# Altium footprint library IFBpcblib_offline.PcbLib: 137 footprints (part 7 of 9)
Each footprint in its own frame and in the unit in brackets; x right, y up, seen from the top. Pads: shape width x height; smd on the part's side, far side on the other; paste and mask are expansions set on the pad; w line width, h text height; cw(c..) or ccw(c..) is an arc to the next point about the centre after c.
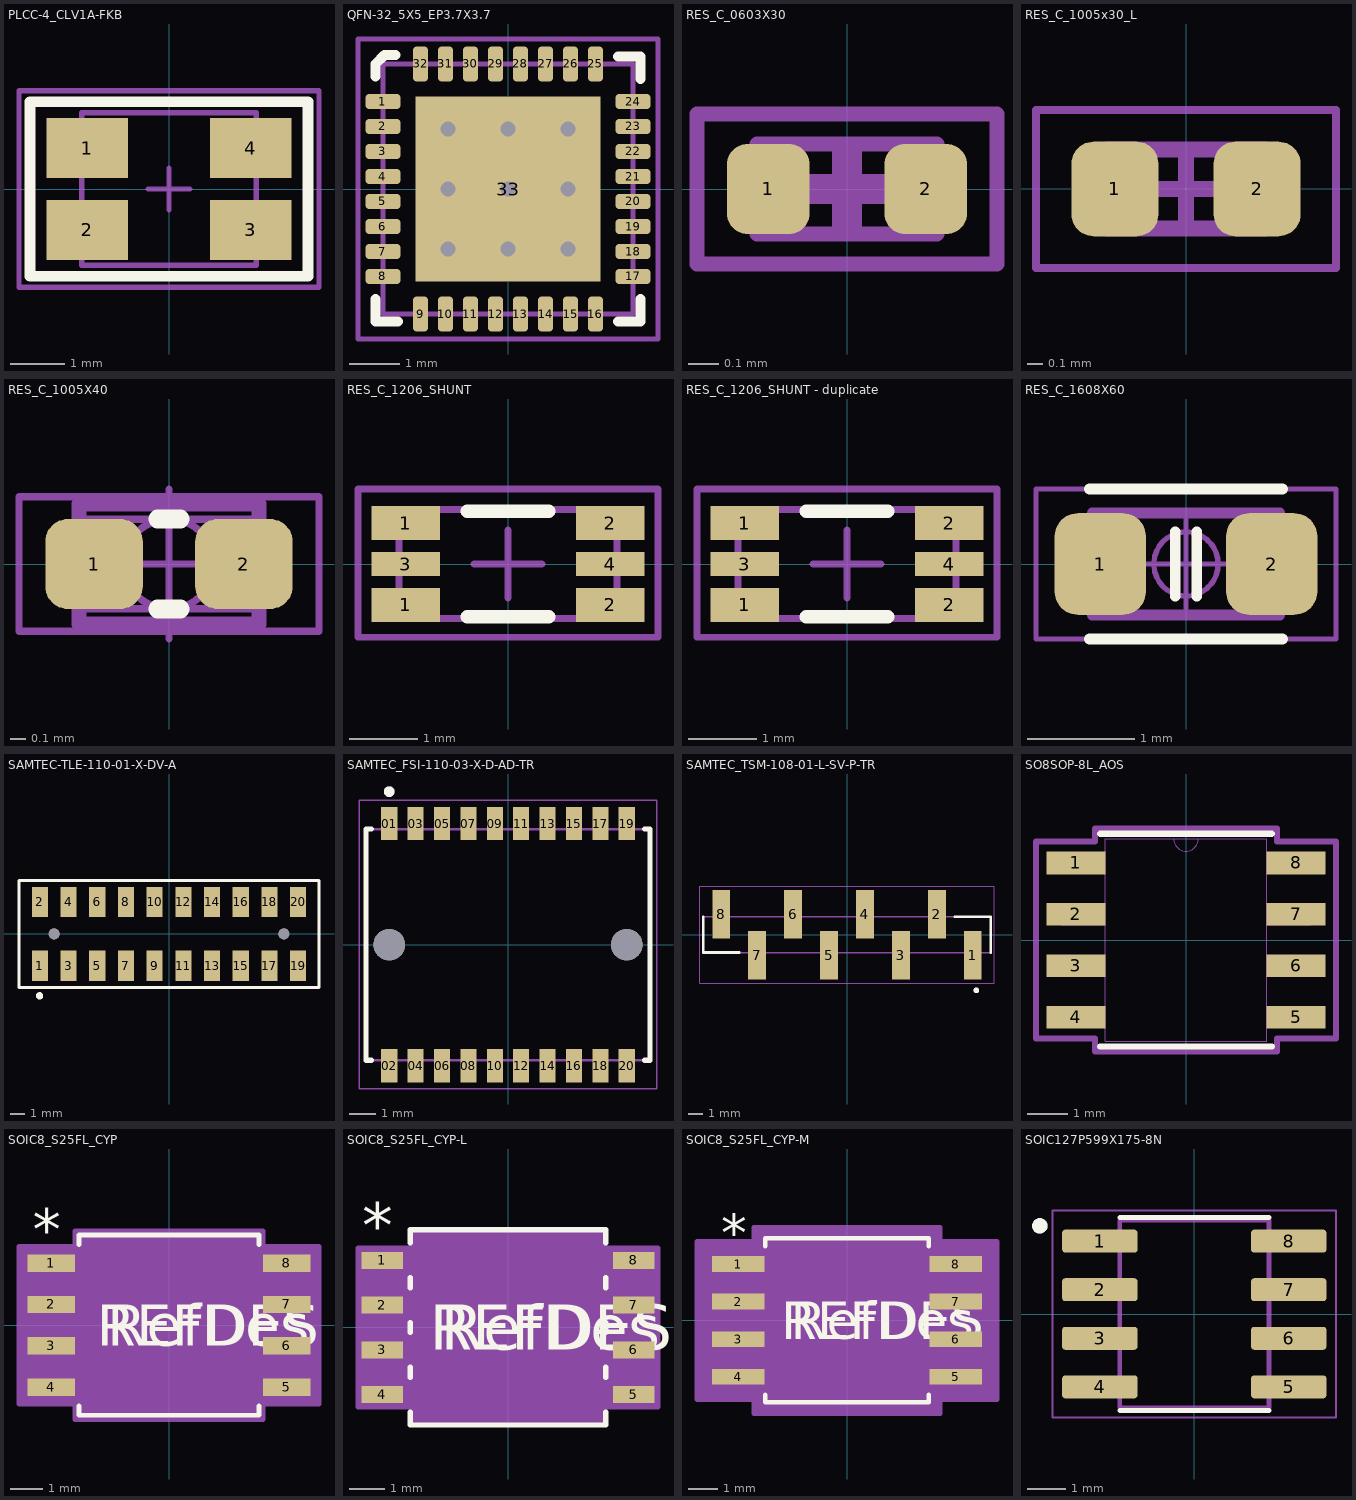
[diagram p6: the footprints below, top view; thin cyan lines are the x and y axes]

## PLCC-4_CLV1A-FKB [mm] "PLCC4 3 in 1 SMD LED"
height 2.1
pads (4):
  rect 1.5x1.1 smd: 1(-1.5,0.75) 2(-1.5,-0.75) 3(1.5,-0.75) 4(1.5,0.75)
Top Overlay:
  lines w0.2: -2.55,-1.6 -2.55,1.6 2.55,1.6 2.55,-1.6 -2.55,-1.6
  text "." at -3.125,1.35 h1
Top Assembly:
  lines w0.1: -1.6,-1.4 -1.6,1.4 1.6,1.4 1.6,-1.4 -1.6,-1.4
  text "." at -2.025,0.825 h1
Top Courtyard:
  lines w0.1: -0.381,0 0.381,0 ; 0,-0.381 0,0.381 ; -2.75,-1.8 2.75,-1.8 2.75,1.8 -2.75,1.8 -2.75,-1.8
3D body "CLV1AFKB.STEP": height 1.9, standoff 0, extent -1.75,-1.4 1.75,1.4

## QFN-32_5X5_EP3.7X3.7 [mm] "QFN32_5MMwith ePAD"
pads (33):
  rrect50% 0.7x0.3 smd mask+0.05: 1(-2.5,1.75) 2(-2.5,1.25) 3(-2.5,0.75) 4(-2.5,0.25) 5(-2.5,-0.25) 6(-2.5,-0.75) 7(-2.5,-1.25) 8(-2.5,-1.75) 17(2.5,-1.75) 18(2.5,-1.25) 19(2.5,-0.75) 20(2.5,-0.25) 21(2.5,0.25) 22(2.5,0.75) 23(2.5,1.25) 24(2.5,1.75)
  rrect50% 0.3x0.7 smd mask+0.05: 9(-1.75,-2.5) 10(-1.25,-2.5) 11(-0.75,-2.5) 12(-0.25,-2.5) 13(0.25,-2.5) 14(0.75,-2.5) 15(1.25,-2.5) 16(1.75,-2.5) 25(1.75,2.5) 26(1.25,2.5) 27(0.75,2.5) 28(0.25,2.5) 29(-0.25,2.5) 30(-0.75,2.5) 31(-1.25,2.5) 32(-1.75,2.5)
  rect 3.7x3.7 smd mask+0.05: 33(0,0)
via 0,0 diameter 0.55 hole 0.3
via -1.2,0 diameter 0.55 hole 0.3
via 1.2,0 diameter 0.55 hole 0.3
via -1.2,1.2 diameter 0.55 hole 0.3
via 0,1.2 diameter 0.55 hole 0.3
via 1.2,1.2 diameter 0.55 hole 0.3
via 1.2,-1.2 diameter 0.55 hole 0.3
via 0,-1.2 diameter 0.55 hole 0.3
via -1.2,-1.2 diameter 0.55 hole 0.3
Top Overlay:
  lines w0.2: -2.65,-2.2 -2.65,-2.65 -2.2,-2.65 ; -2.65,2.25 -2.65,2.5 -2.475,2.675 -2.25,2.675 ; 2.2,-2.65 2.65,-2.65 2.65,-2.2 ; 2.2,2.65 2.65,2.65 2.65,2.2
  text "." at -3.35,2.15 h1
Top Assembly:
  lines w0.1: -2.5,-2.5 2.5,-2.5 2.5,2.5 -2.5,2.5 -2.5,-2.5
  text ".Designator" at -0.889,-0.381 h1.02
  text "1" at -2.286,1.905 h0.76
Top Courtyard:
  lines w0.1: -0.305,-0.024 0.28,-0.024 ; 0,-0.303 0,0.255 ; -3,-3 -3,3 3,3 3,-3 -3,-3
3D body "User Library-VQFN-32.STEP": height 1.01, standoff 0, extent -2.56,-2.56 2.56,2.56

## RES_C_0603X30 [mm] "Chip Resistor, 2-Leads, Body 0.6x0.3mm, IPC Medium Density"
height 0.23
pads (2):
  rrect50% 0.275x0.3 smd mask+0.064: 1(-0.262,0) 2(0.262,0)
Top Assembly:
  lines w0.05: -0.3,-0.15 -0.3,0.15 0.3,0.15 0.3,-0.15 -0.3,-0.15
  text ".Designator" at -0.225,-0.05 h0.13
Top Courtyard:
  lines w0.05: -0.5,-0.25 0.5,-0.25 0.5,0.25 -0.5,0.25 -0.5,-0.25
  lines w0.1: -0.125,0 0.125,0 ; 0,-0.125 0,0.125
3D body "User Library-SMD RESISTOR-10201.STEP": height 0.22, standoff -0.01, extent -0.3,-0.15 0.3,0.15

## RES_C_1005x30_L [mm] "Chip Resistor, 2-Leads, Body 1.0x0.5mm, IPC Medium Density"
height 0.35
pads (2):
  rrect50% 0.55x0.6 smd: 1(-0.45,0) 2(0.45,0)
Top Assembly:
  lines w0.1: -0.5,-0.25 -0.5,0.25 0.5,0.25 0.5,-0.25 -0.5,-0.25
  text ".Designator" at -0.5,0 h0.3
Top Courtyard:
  lines w0.05: -0.95,-0.5 0.95,-0.5 0.95,0.5 -0.95,0.5 -0.95,-0.5
  lines w0.1: -0.25,0 0.25,0 ; 0,-0.25 0,0.25
Top 3D Body:
  lines w0.1: -0.5,-0.25 0.5,-0.25 0.5,0.25 -0.5,0.25 -0.5,-0.25
3D body "RES_0402.step": height 0.2, standoff 0, extent -0.5,-0.3 0.5,0.3

## RES_C_1005X40 [mm]
pads (2):
  rrect50% 0.65x0.6 smd mask+0.05: 1(-0.5,0) 2(0.5,0)
Top Overlay:
  lines w0.125: -0.075,-0.3 0.075,-0.3 ; -0.075,0.3 0.075,0.3
Top Assembly:
  lines w0.1: -0.6,-0.4 0.6,-0.4 0.6,0.4 -0.6,0.4 -0.6,-0.4
  text "'.Designator'" at -4.433,-0.827 h1.6
Top Courtyard:
  lines w0.05: -1,-0.45 -1,0.45 1,0.45 1,-0.45 -0.575,-0.45 -1,-0.45
Top Component Outline:
  rectangle: -0.55,-0.3 -0.25,0.3
  rectangle: 0.25,-0.3 0.55,0.3
  lines w0.05: -0.55,-0.3 0.55,-0.3 0.55,0.3 -0.55,0.3 -0.55,-0.3
Top Component Center:
  circle w0.05: c0,0 r0.3
  lines w0.05: -0.5,0 0.5,0 ; 0,-0.5 0,0.5
3D body "6-1622826-4.stp": height 0.38, standoff 0.02, extent -0.5,-0.25 0.5,0.25

## RES_C_1206_SHUNT [mm] "Chip Resistor, 2-Leads, Body 3.2x1.6mm, IPC Medium Density"
height 0.6
pads (6):
  rect 1x0.5 smd mask+0.05: 1(-1.5,-0.6) 1(-1.5,0.6) 2(1.5,-0.6) 2(1.5,0.6)
  rect 1x0.35 smd mask+0.05: 3(-1.5,0) 4(1.5,0)
Top Overlay:
  lines w0.2: -0.6,-0.775 0.6,-0.775 ; -0.6,0.775 0.6,0.775
Top Assembly:
  lines w0.1: -1.6,-0.8 1.6,-0.8 1.6,0.8 -1.6,0.8 -1.6,-0.8
  text ".Designator" at -1.4,-0.375 h0.75
Top Courtyard:
  lines w0.1: -0.5,0 0.5,0 ; 0,-0.5 0,0.5 ; -2.2,-1.075 -2.2,1.1 2.2,1.1 2.2,-1.075 -2.2,-1.075
Top 3D Body:
  lines w0.1: -1.6,-0.8 -1.6,0.8 1.6,0.8 1.6,-0.8 -1.6,-0.8
3D body "RES_1206.step": height 1, standoff 0, extent -1.6,-0.8 1.6,0.8

## RES_C_1206_SHUNT - duplicate [mm] "Chip Resistor, 2-Leads, Body 3.2x1.6mm, IPC Medium Density"
height 0.6
pads (6):
  rect 1x0.5 smd mask+0.05: 1(-1.5,-0.6) 1(-1.5,0.6) 2(1.5,-0.6) 2(1.5,0.6)
  rect 1x0.35 smd mask+0.05: 3(-1.5,0) 4(1.5,0)
Top Overlay:
  lines w0.2: -0.6,-0.775 0.6,-0.775 ; -0.6,0.775 0.6,0.775
Top Assembly:
  lines w0.1: -1.6,-0.8 1.6,-0.8 1.6,0.8 -1.6,0.8 -1.6,-0.8
  text ".Designator" at -1.4,-0.375 h0.75
Top Courtyard:
  lines w0.1: -0.5,0 0.5,0 ; 0,-0.5 0,0.5 ; -2.2,-1.075 -2.2,1.1 2.2,1.1 2.2,-1.075 -2.2,-1.075
Top 3D Body:
  lines w0.1: -1.6,-0.8 -1.6,0.8 1.6,0.8 1.6,-0.8 -1.6,-0.8
3D body "RES_1206.step": height 1, standoff 0, extent -1.6,-0.8 1.6,0.8

## RES_C_1608X60 [mm] "Chip Resistor, 2-Leads, Body 1.63x0.83mm, IPC High Density"
height 0.6
pads (2):
  rrect50% 0.85x0.95 smd: 1(-0.8,0) 2(0.8,0)
Top Overlay:
  lines w0.1: -0.9,-0.7 0.9,-0.7 ; -0.9,0.7 0.9,0.7 ; -0.1,-0.3 -0.1,0.3 ; 0.1,-0.3 0.1,0.3
Top Assembly:
  lines w0.1: -0.875,-0.475 -0.875,0.475 0.875,0.475 0.875,-0.475 -0.875,-0.475
  text "'.Designator'" at -4.217,-0.663 h1.6
Top Courtyard:
  lines w0.05: -1.4,-0.7 -1.4,0.7 1.4,0.7 1.4,-0.7 -1.4,-0.7
Top Component Outline:
  rectangle: -0.875,-0.475 -0.475,0.475
  rectangle: 0.475,-0.475 0.875,0.475
  lines w0.05: -0.875,-0.475 0.875,-0.475 0.875,0.475 -0.875,0.475 -0.875,-0.475
Top Component Center:
  circle w0.05: c0,0 r0.3
  lines w0.05: -0.5,0 0.5,0 ; 0,-0.5 0,0.5
3D body "RESC1608X60.step": height 0.6, standoff 0, extent -0.875,-0.475 0.875,0.475

## SAMTEC-TLE-110-01-X-DV-A [mm]
pads (22):
  rect 1.12x2.11 smd mask+0.1: 1(-9,-2.222) 2(-9,2.222) 3(-7,-2.222) 4(-7,2.222) 5(-5,-2.222) 6(-5,2.222) 7(-3,-2.222) 8(-3,2.222) 9(-1,-2.222) 10(-1,2.222) 11(1,-2.222) 12(1,2.222) 13(3,-2.222) 14(3,2.222) 15(5,-2.222) 16(5,2.222) 17(7,-2.222) 18(7,2.222) 19(9,-2.222) 20(9,2.222)
  round 0.76 hole 0.76 unplated mask+0.1: ""(-8,0) ""(8,0)
Top Overlay:
  circle w0.254: c-9.017,-4.318 r0.127
  lines w0.2: -10.45,-3.728 -10.45,3.729 10.45,3.729 10.45,-3.728 -10.45,-3.728
Top Paste:
  region: -8.44,-1.167 -9.56,-1.167 -9.56,-3.277 -8.44,-3.277
  region: -8.44,3.277 -9.56,3.277 -9.56,1.167 -8.44,1.167
  region: -6.44,3.277 -7.56,3.277 -7.56,1.167 -6.44,1.167
  region: -6.44,-1.167 -7.56,-1.167 -7.56,-3.277 -6.44,-3.277
  region: -4.44,3.277 -5.56,3.277 -5.56,1.167 -4.44,1.167
  region: -4.44,-1.167 -5.56,-1.167 -5.56,-3.277 -4.44,-3.277
  region: -2.44,3.277 -3.56,3.277 -3.56,1.167 -2.44,1.167
  region: -2.44,-1.167 -3.56,-1.167 -3.56,-3.277 -2.44,-3.277
  region: -0.44,3.277 -1.56,3.277 -1.56,1.167 -0.44,1.167
  region: -0.44,-1.167 -1.56,-1.167 -1.56,-3.277 -0.44,-3.277
  region: 1.56,3.277 0.44,3.277 0.44,1.167 1.56,1.167
  region: 1.56,-1.167 0.44,-1.167 0.44,-3.277 1.56,-3.277
  region: 3.56,-1.167 2.44,-1.167 2.44,-3.277 3.56,-3.277
  region: 3.56,3.277 2.44,3.277 2.44,1.167 3.56,1.167
  region: 5.56,-1.167 4.44,-1.167 4.44,-3.277 5.56,-3.277
  region: 5.56,3.277 4.44,3.277 4.44,1.167 5.56,1.167
  region: 7.56,3.277 6.44,3.277 6.44,1.167 7.56,1.167
  region: 7.56,-1.167 6.44,-1.167 6.44,-3.277 7.56,-3.277
  region: 9.56,3.277 8.44,3.277 8.44,1.167 9.56,1.167
  region: 9.56,-1.167 8.44,-1.167 8.44,-3.277 9.56,-3.277
Top Solder:
  circle w0: c-8,0 r0.431
  circle w0: c8,0 r0.431
  region: -8.389,3.328 -9.611,3.328 -9.611,1.116 -8.389,1.116
  region: -8.389,-1.116 -9.611,-1.116 -9.611,-3.328 -8.389,-3.328
  region: -6.389,3.328 -7.611,3.328 -7.611,1.116 -6.389,1.116
  region: -6.389,-1.116 -7.611,-1.116 -7.611,-3.328 -6.389,-3.328
  region: -4.389,3.328 -5.611,3.328 -5.611,1.116 -4.389,1.116
  region: -4.389,-1.116 -5.611,-1.116 -5.611,-3.328 -4.389,-3.328
  region: -2.389,3.328 -3.611,3.328 -3.611,1.116 -2.389,1.116
  region: -2.389,-1.116 -3.611,-1.116 -3.611,-3.328 -2.389,-3.328
  region: -0.389,3.328 -1.611,3.328 -1.611,1.116 -0.389,1.116
  region: -0.389,-1.116 -1.611,-1.116 -1.611,-3.328 -0.389,-3.328
  region: 1.611,3.328 0.389,3.328 0.389,1.116 1.611,1.116
  region: 1.611,-1.116 0.389,-1.116 0.389,-3.328 1.611,-3.328
  region: 3.611,3.328 2.389,3.328 2.389,1.116 3.611,1.116
  region: 3.611,-1.116 2.389,-1.116 2.389,-3.328 3.611,-3.328
  region: 5.611,3.328 4.389,3.328 4.389,1.116 5.611,1.116
  region: 5.611,-1.116 4.389,-1.116 4.389,-3.328 5.611,-3.328
  region: 7.611,3.328 6.389,3.328 6.389,1.116 7.611,1.116
  region: 7.611,-1.116 6.389,-1.116 6.389,-3.328 7.611,-3.328
  region: 9.611,3.328 8.389,3.328 8.389,1.116 9.611,1.116
  region: 9.611,-1.116 8.389,-1.116 8.389,-3.328 9.611,-3.328
Bottom Solder:
  circle w0: c-8,0 r0.431
  circle w0: c8,0 r0.431
3D body "TLE-110-01-G-DV-A-TR.stp": height 4.32, standoff -0.81, extent -9.995,-2.781 9.995,2.781

## SAMTEC_FSI-110-03-X-D-AD-TR [mm]
pads (22):
  rect 0.61x1.26 smd: 01(-4.5,4.59) 02(-4.5,-4.59) 03(-3.5,4.59) 04(-3.5,-4.59) 05(-2.5,4.59) 06(-2.5,-4.59) 07(-1.5,4.59) 08(-1.5,-4.59) 09(-0.5,4.59) 10(-0.5,-4.59) 11(0.5,4.59) 12(0.5,-4.59) 13(1.5,4.59) 14(1.5,-4.59) 15(2.5,4.59) 16(2.5,-4.59) 17(3.5,4.59) 18(3.5,-4.59) 19(4.5,4.59) 20(4.5,-4.59)
  round 1.19 hole 1.19 unplated: ""(-4.5,0) ""(4.5,0)
Top Overlay:
  circle w0.2: c-4.5,5.8 r0.1
  lines w0.2: -5.18,-4.38 -5.38,-4.38 -5.38,4.38 -5.18,4.38 ; 5.18,-4.38 5.38,-4.38 5.38,4.38 5.18,4.38
Mechanical 13:
  circle w0.2: c-4.5,5.8 r0.1
  lines w0.1: -5.38,-4.38 5.38,-4.38 5.38,4.38 -5.38,4.38 -5.38,-4.38
Mechanical 15:
  lines w0.05: -5.63,-5.47 5.63,-5.47 5.63,5.47 -5.63,5.47 -5.63,-5.47
3D body "FSI-110-03-G-D-AD.stp": height 4.37, standoff -1.42, extent -5.38,-5 5.38,5

## SAMTEC_TSM-108-01-L-SV-P-TR [mm]
pads (8):
  rect 1.27x3.43 smd: 1(8.89,-1.46) 2(6.35,1.46) 3(3.81,-1.46) 4(1.27,1.46) 5(-1.27,-1.46) 6(-3.81,1.46) 7(-6.35,-1.46) 8(-8.89,1.46)
Top Overlay:
  circle w0.2: c9.14,-3.935 r0.1
  lines w0.2: -10.16,1.27 -10.16,-1.27 -7.62,-1.27 ; 7.62,1.27 10.16,1.27 10.16,-1.27
Mechanical 13:
  circle w0.2: c9.14,-3.935 r0.1
  lines w0.1: -10.16,-1.27 10.16,-1.27 10.16,1.27 -10.16,1.27 -10.16,-1.27
Mechanical 15:
  lines w0.05: -10.41,-3.425 10.41,-3.425 10.41,3.425 -10.41,3.425 -10.41,-3.425
3D body "TSM-108-01-L-SV-P-TR.stp": height 10.95, standoff 0.03, extent -10.16,-2.642 10.16,2.642

## SO8SOP-8L_AOS [mil]
pads (8):
  rect 57.5x22 smd paste+0 mask+0: 1(-107.25,75) 2(-107.25,25) 3(-107.25,-25) 4(-107.25,-75) 5(107.25,-75) 6(107.25,-25) 7(107.25,25) 8(107.25,75)
Top Overlay:
  lines w6: -83.5,-103.5 83.5,-103.5 ; -83.5,103.5 83.5,103.5
Mechanical 13:
  lines w0: -12,98.5 ccw(c0,98.5) 12,98.5
  lines w1: -122,-85 -122,-65 -78.5,-65 -78.5,-85 -122,-85 ; -122,-35 -122,-15 -78.5,-15 -78.5,-35 -122,-35 ; -122,15 -122,35 -78.5,35 -78.5,15 -122,15 ; -122,65 -122,85 -78.5,85 -78.5,65 -122,65 ; -78.5,-98.5 78.5,-98.5 78.5,98.5 -78.5,98.5 -78.5,-98.5 ; 78.5,-85 78.5,-65 122,-65 122,-85 78.5,-85 ; 78.5,-35 78.5,-15 122,-15 122,-35 78.5,-35 ; 78.5,15 78.5,35 122,35 122,15 78.5,15 ; 78.5,65 78.5,85 122,85 122,65 78.5,65
Mechanical 15:
  lines w6: -146,-96 -146,96 -88.5,96 -88.5,108.5 88.5,108.5 88.5,96 146,96 146,-96 88.5,-96 88.5,-108.5 -88.5,-108.5 -88.5,-96 -146,-96
3D body "SO8SOP-8L_AOS.step": height 69.09, standoff 0, extent -122.01,-98.5 122.01,98.5

## SOIC8_S25FL_CYP [mil]
pads (8):
  rect 58x21 smd paste+0 mask+0: 1(-142.5,75) 2(-142.5,25) 3(-142.5,-25) 4(-142.5,-75) 5(142.5,-75) 6(142.5,-25) 7(142.5,25) 8(142.5,75)
Top Overlay:
  lines w6: -109,-97.8 -109,-109 109,-109 109,-97.8 ; -109,97.8 -109,109 109,109 109,97.8
  text "RefDes" at -75,-25 h50
  text "*" at -165,91 h50
  text "REFDES" at -87.5,-25 h50
Mechanical 13:
  lines w0: -12,104 ccw(c0,104) 12,104
  lines w1: -157.5,-84.5 -104,-84.5 -104,-65.5 -157.5,-65.5 -157.5,-84.5 ; -157.5,-34.5 -104,-34.5 -104,-15.5 -157.5,-15.5 -157.5,-34.5 ; -157.5,15.5 -104,15.5 -104,34.5 -157.5,34.5 -157.5,15.5 ; -157.5,65.5 -104,65.5 -104,84.5 -157.5,84.5 -157.5,65.5 ; -104,-104 -104,104 104,104 104,-104 -104,-104 ; 104,-84.5 157.5,-84.5 157.5,-65.5 104,-65.5 104,-84.5 ; 104,-34.5 157.5,-34.5 157.5,-15.5 104,-15.5 104,-34.5 ; 104,15.5 157.5,15.5 157.5,34.5 104,34.5 104,15.5 ; 104,65.5 157.5,65.5 157.5,84.5 104,84.5 104,65.5
  text "RefDes2" at -87.5,-25 h50
  text "*" at -101.5,51 h50
Mechanical 15:
  region: -114,-95.5 -181.5,-95.5 -181.5,95.5 -114,95.5 -114,114 114,114 114,95.5 181.5,95.5 181.5,-95.5 114,-95.5 114,-114 -114,-114
  lines w6: -181.5,-95.5 -114,-95.5 -114,-114 114,-114 114,-95.5 181.5,-95.5 181.5,95.5 114,95.5 114,114 -114,114 -114,95.5 -181.5,95.5 -181.5,-95.5
3D body "SOIC8_S25FL_CYP.step": height 85.12, standoff 0, extent -157.52,-104.02 157.52,104.02

## SOIC8_S25FL_CYP-L [mil]
pads (8):
  rect 46x19 smd paste+0 mask+0: 1(-140.5,75) 2(-140.5,25) 3(-140.5,-25) 4(-140.5,-75) 5(140.5,-75) 6(140.5,-25) 7(140.5,25) 8(140.5,75)
Top Overlay:
  lines w6: -109,-94.47 -109,-109 109,-109 109,-94.47 ; -109,-55.53 -109,-44.47 ; -109,-5.53 -109,5.53 ; -109,44.47 -109,55.53 ; -109,94.47 -109,109 109,109 109,94.47 ; 109,-55.53 109,-44.47 ; 109,-5.53 109,5.53 ; 109,44.47 109,55.53
  text "REFDES" at -87.5,-25 h50
  text "*" at -163,89 h50
  text "RefDes" at -75,-25 h50
Mechanical 13:
  lines w0: -12,104 ccw(c0,104) 12,104
  lines w1: -157.5,-84.5 -157.5,-65.5 -104,-65.5 -104,-84.5 -157.5,-84.5 ; -157.5,-34.5 -157.5,-15.5 -104,-15.5 -104,-34.5 -157.5,-34.5 ; -157.5,15.5 -157.5,34.5 -104,34.5 -104,15.5 -157.5,15.5 ; -157.5,65.5 -157.5,84.5 -104,84.5 -104,65.5 -157.5,65.5 ; -104,-104 104,-104 104,104 -104,104 -104,-104 ; 104,-84.5 104,-65.5 157.5,-65.5 157.5,-84.5 104,-84.5 ; 104,-34.5 104,-15.5 157.5,-15.5 157.5,-34.5 104,-34.5 ; 104,15.5 104,34.5 157.5,34.5 157.5,15.5 104,15.5 ; 104,65.5 104,84.5 157.5,84.5 157.5,65.5 104,65.5
  text "*" at -101.5,51 h50
  text "RefDes2" at -87.5,-25 h50
Mechanical 15:
  region: -108,-88.5 -167.5,-88.5 -167.5,88.5 -108,88.5 -108,108 108,108 108,88.5 167.5,88.5 167.5,-88.5 108,-88.5 108,-108 -108,-108
  lines w6: -167.5,-88.5 -167.5,88.5 -108,88.5 -108,108 108,108 108,88.5 167.5,88.5 167.5,-88.5 108,-88.5 108,-108 -108,-108 -108,-88.5 -167.5,-88.5
3D body "SOIC8_S25FL_CYP.step": height 85.12, standoff 0, extent -157.52,-104.02 157.52,104.02

## SOIC8_S25FL_CYP-M [mil]
pads (8):
  rect 70x21 smd paste+0 mask+0: 1(-144.5,75) 2(-144.5,25) 3(-144.5,-25) 4(-144.5,-75) 5(144.5,-75) 6(144.5,-25) 7(144.5,25) 8(144.5,75)
Top Overlay:
  lines w6: -109,-98.59 -109,-109 109,-109 109,-98.59 ; -109,98.59 -109,109 109,109 109,98.59
  text "RefDes" at -75,-25 h50
  text "*" at -167,91 h50
  text "REFDES" at -87.5,-25 h50
Mechanical 13:
  lines w0: -12,104 ccw(c0,104) 12,104
  lines w1: -157.5,-84.5 -104,-84.5 -104,-65.5 -157.5,-65.5 -157.5,-84.5 ; -157.5,-34.5 -104,-34.5 -104,-15.5 -157.5,-15.5 -157.5,-34.5 ; -157.5,15.5 -104,15.5 -104,34.5 -157.5,34.5 -157.5,15.5 ; -157.5,65.5 -104,65.5 -104,84.5 -157.5,84.5 -157.5,65.5 ; -104,-104 -104,104 104,104 104,-104 -104,-104 ; 104,-84.5 157.5,-84.5 157.5,-65.5 104,-65.5 104,-84.5 ; 104,-34.5 157.5,-34.5 157.5,-15.5 104,-15.5 104,-34.5 ; 104,15.5 157.5,15.5 157.5,34.5 104,34.5 104,15.5 ; 104,65.5 157.5,65.5 157.5,84.5 104,84.5 104,65.5
  text "RefDes2" at -87.5,-25 h50
  text "*" at -101.5,51 h50
Mechanical 15:
  region: -124,-105.5 -199.5,-105.5 -199.5,105.5 -124,105.5 -124,124 124,124 124,105.5 199.5,105.5 199.5,-105.5 124,-105.5 124,-124 -124,-124
  lines w6: -199.5,-105.5 -124,-105.5 -124,-124 124,-124 124,-105.5 199.5,-105.5 199.5,105.5 124,105.5 124,124 -124,124 -124,105.5 -199.5,105.5 -199.5,-105.5
3D body "SOIC8_S25FL_CYP.step": height 85.12, standoff 0, extent -157.52,-104.02 157.52,104.02

## SOIC127P599X175-8N [mm] "SN65HVD230DR"
pads (8):
  rrect25% 1.97x0.6 smd: 1(-2.47,1.905) 2(-2.47,0.635) 3(-2.47,-0.635) 4(-2.47,-1.905) 5(2.47,-1.905) 6(2.47,-0.635) 7(2.47,0.635) 8(2.47,1.905)
Top Overlay:
  circle w0.2: c-4.04,2.305 r0.1
  lines w0.127: -1.95,-2.525 1.95,-2.525 ; -1.95,2.525 1.95,2.525
Mechanical 13:
  circle w0.2: c-4.04,2.305 r0.1
  lines w0.127: -1.95,-2.452 -1.95,2.452 1.95,2.452 1.95,-2.452 -1.95,-2.452
Mechanical 15:
  lines w0.05: -3.705,-2.702 -3.705,2.702 3.705,2.702 3.705,-2.702 -3.705,-2.702
3D body "step_temp.STEP": height 1.75, standoff 0, extent -3,-2.45 3,2.45